# Altium footprint library PCB - BUTTONS - KLS7-TS3606-3.5-180.PcbLib: 1 footprints
Each footprint in its own frame and in the unit in brackets; x right, y up, seen from the top. Pads: shape width x height; smd on the part's side, far side on the other; paste and mask are expansions set on the pad; w line width, h text height; cw(c..) or ccw(c..) is an arc to the next point about the centre after c.
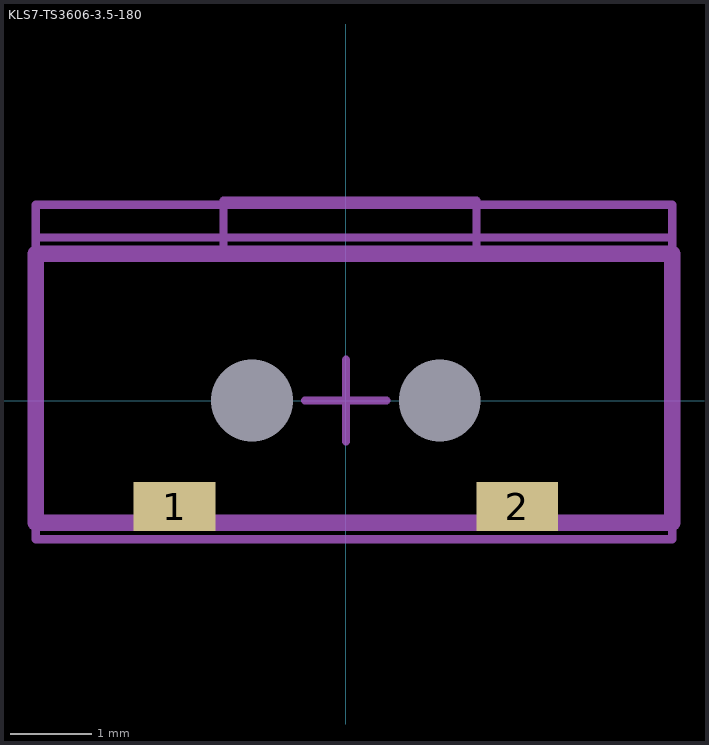
[diagram p0: the footprint, top view; thin cyan lines are the x and y axes]

## KLS7-TS3606-3.5-180 [mm] "Tactile Switch, SMD 4.0x8.0x3.5mm"
height 3.5
pads (4):
  rect 1x0.6 smd: 1(-2.1,-1.3) 2(2.1,-1.3)
  round 0 hole 1 unplated: Mnt(-1.15,0) Mnt(1.15,0)
Top Assembly:
  lines w0.1: -1.5,1.8 -1.5,2.45 1.6,2.45 1.6,1.8
  lines w0.2: -3.8,-1.5 4,-1.5 4,1.8 -3.8,1.8 -3.8,-1.5
Board Shape:
  lines w0.1: -3.8,2 4,2
Top Courtyard:
  lines w0.1: -3.8,-1.7 -3.8,2.4 4,2.4 4,-1.7 -3.8,-1.7
Top Component Center:
  lines w0.1: -0.5,0 0.5,0 ; 0,-0.5 0,0.5
3D body "IT-1188E.STEP": height 3.5, standoff -0.7, extent -3.902,-1.15 3.898,2.45